# Altium footprint library FREESCALE MPXV7002DP.PCBLIB: 1 footprints
Each footprint in its own frame and in the unit in brackets; x right, y up, seen from the top. Pads: shape width x height; smd on the part's side, far side on the other; paste and mask are expansions set on the pad; w line width, h text height; cw(c..) or ccw(c..) is an arc to the next point about the centre after c.
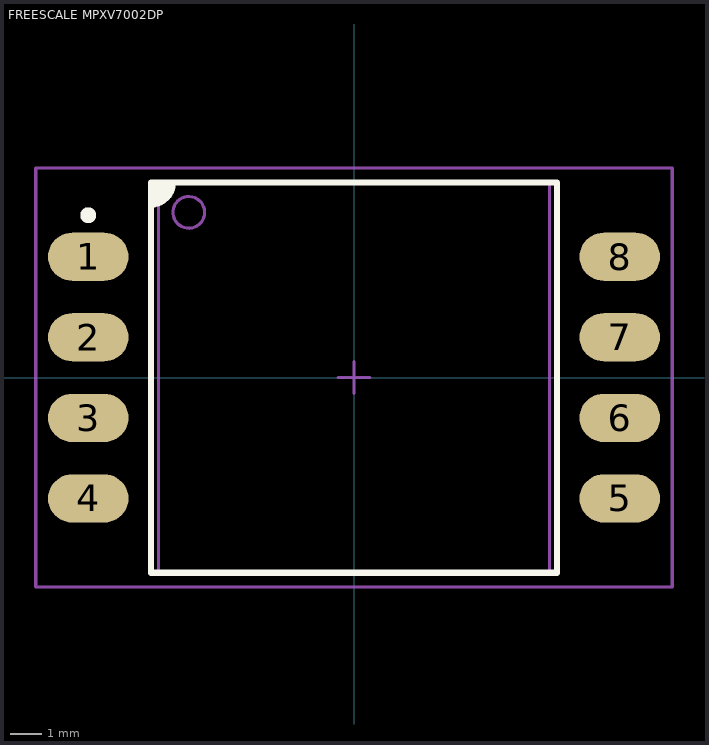
[diagram p0: the footprint, top view; thin cyan lines are the x and y axes]

## FREESCALE MPXV7002DP [mm] "SOP, 8-Leads, Body 12.3x12.3mm (max), Pitch 2.54mm, IPC Medium Density"
height 9.906
pads (8):
  oval 2.54x1.52 smd: 1(-8.38,3.81) 2(-8.38,1.27) 3(-8.38,-1.27) 4(-8.38,-3.81) 5(8.38,-3.81) 6(8.38,-1.27) 7(8.38,1.27) 8(8.38,3.81)
Top Overlay:
  circle w0.25: c-8.38,5.12 r0.125
  region: -5.715,6.146 -6.396,6.146 -6.4,6.15 -6.4,5.461 -6.223,5.461 -5.715,5.969
  lines w0.2: -6.4,5.461 ccw(c-6.4,6.146) -5.715,6.146 ; -6.4,-6.15 6.4,-6.15 6.4,6.15 -6.4,6.15 -6.4,-6.15
Mechanical 13:
  circle w0.1: c-5.21,5.21 r0.5
  lines w0.1: -6.16,-6.16 6.16,-6.16 6.16,6.16 -6.16,6.16 -6.16,-6.16
Mechanical 15:
  lines w0.1: -0.5,0 0.5,0 ; 0,-0.5 0,0.5 ; -10.033,-6.604 10.033,-6.604 10.033,6.604 -10.033,6.604 -10.033,-6.604
3D body "MPXV7002DP.STEP": height 9.91, standoff -0.25, extent -8.763,-6.033 8.763,12.128